# EAGLE library part PINS_2X6 (library act-global-nolan)
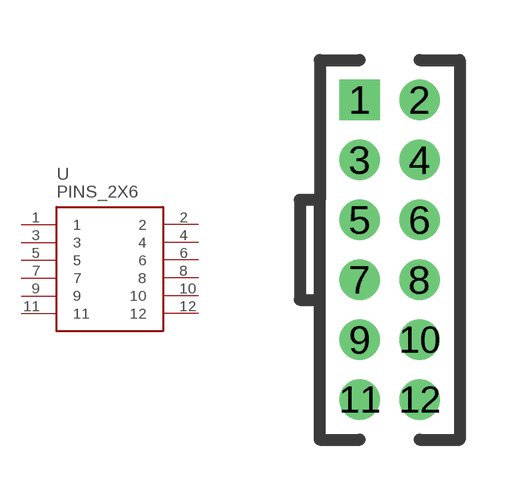
[diagram p20: symbol with the pads of PINS_2X6-1MM5; footprint PINS_2X6-1MM5]

Designator prefix -

## PINS_2X6  [PINS_2X6-1MM5]
1  1
2  2
3  3
4  4
5  5
6  6
7  7
8  8
9  9
10  10
11  11
12  12

## Footprint PINS_2X6-1MM5 (pad centres in mm)
drill 0.5 square: 1 0,0
drill 0.5: 2 1.5,0; 3 0,-1.5; 4 1.5,-1.5; 5 0,-3; 6 1.5,-3; 7 0,-4.5; 8 1.5,-4.5; 9 0,-6; 10 1.5,-6; 11 0,-7.5; 12 1.5,-7.5